# Altium footprint library GDT_2027A.PcbLib: 1 footprints
Each footprint in its own frame and in the unit in brackets; x right, y up, seen from the top. Pads: shape width x height; smd on the part's side, far side on the other; paste and mask are expansions set on the pad; w line width, h text height; cw(c..) or ccw(c..) is an arc to the next point about the centre after c.
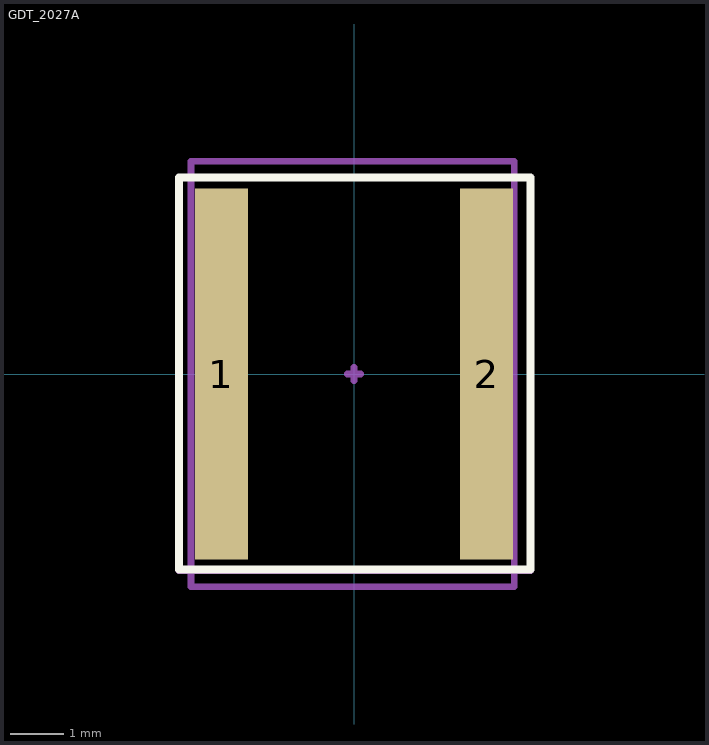
[diagram p0: the footprint, top view; thin cyan lines are the x and y axes]

## GDT_2027A [mm]
pads (2):
  rect 1x7 smd: 1(-2.5,0) 2(2.5,0)
Top Overlay:
  lines w0.152: -3.302,-3.683 -0.864,-3.683 3.327,-3.683 3.327,3.708 -3.302,3.708 -3.302,-3.683
Mechanical 13:
  lines w0.127: -3.073,-4.013 3.023,-4.013 3.023,4.013 -3.073,4.013 -3.073,-4.013
Mechanical 15:
  lines w0.127: -0.127,0 0.127,0 ; 0,-0.127 0,0.127 ; -3.302,-3.708 3.327,-3.708 3.327,3.708 -3.302,3.708 -3.302,-3.708
Mechanical 17:
  text "'.Designator'" at -1.803,-1.092 h0.38
Mechanical 19:
  text "'.Comment'" at -1.803,-1.092 h0.38
3D body "User Library-GDT.step": height 8.01, standoff -0.01, extent -5.4,-7.949 5.4,4.061